# Altium footprint library SparkFun-Hardware.PCBLIB: 23 footprints (part 2 of 2)
Each footprint in its own frame and in the unit in brackets; x right, y up, seen from the top. Pads: shape width x height; smd on the part's side, far side on the other; paste and mask are expansions set on the pad; w line width, h text height; cw(c..) or ccw(c..) is an arc to the next point about the centre after c.
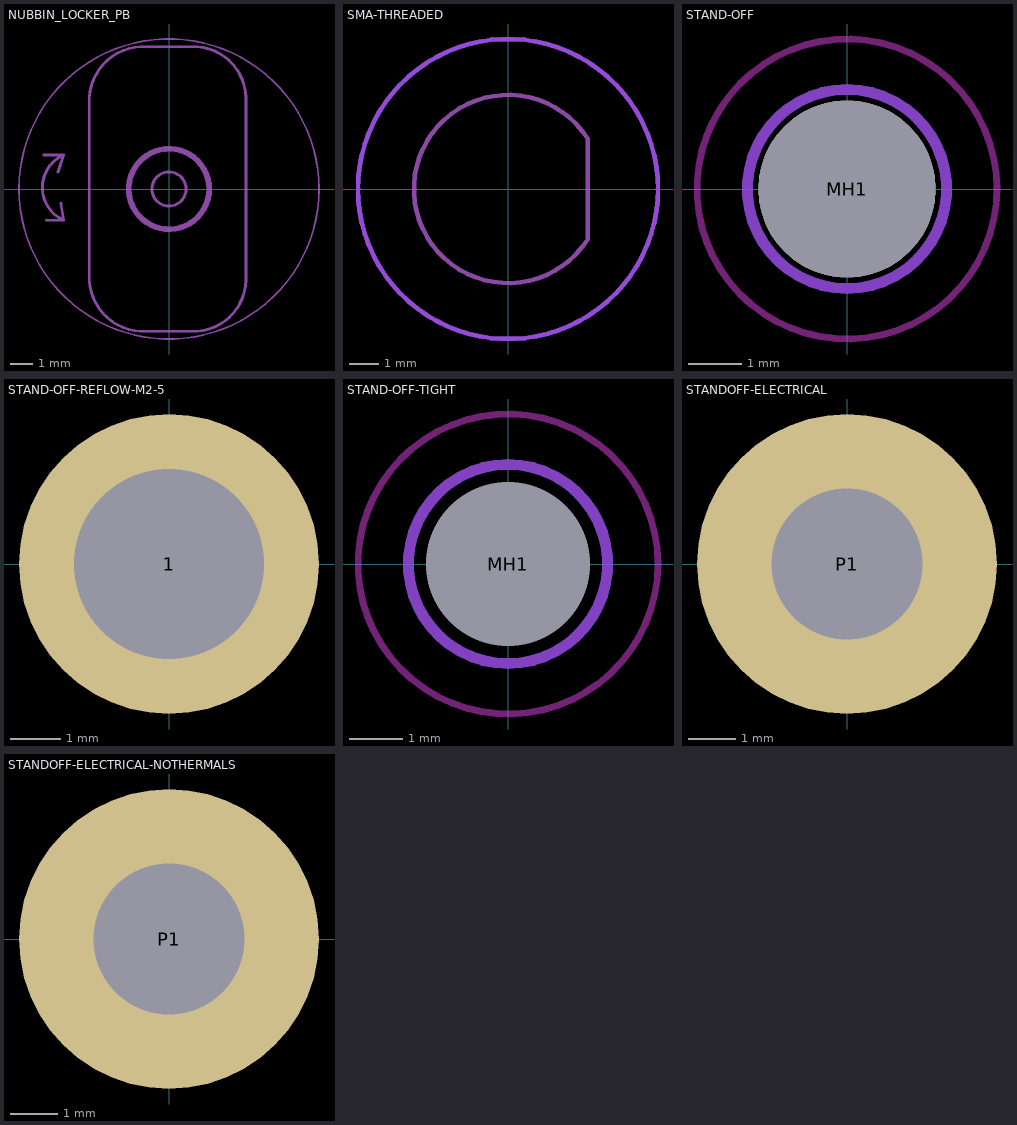
[diagram p1: the footprints below, top view; thin cyan lines are the x and y axes]

## NUBBIN_LOCKER_PB [mil]
Reference:
  circle w10: c0,0 r70.71
  circle w3: c0,0 r263.48
  lines w5: -220,60 -185,60 -195,30 ; -215,-55 -185,-55 -190,-25 ; -189.48,57.67 ccw(c-159.98,2.55) -186.43,-54.09 ; -140,-150 -140,150 cw(c-45,155) -50,250 50,250 cw(c42.5,157.5) 135,150 135,-150 cw(c42.5,-157.5) 50,-250 -50,-250 cw(c-45,-155) -140,-150
Mech68:
  circle w5: c0,0 r30

## SMA-THREADED [mil]
Top keep-out:
  circle w6: c0,0 r200
Bottom keep-out:
  circle w6: c0,0 r200
Milling:
  lines w6: 106.3,-66.93 cw(c0.1,0) 106.3,66.93 106.3,-66.93
  text "Route" at 0,22.5 h46.5
  text "Out" at 0,-22.5 h46.5
tDocu:
  circle w6: c0,0 r200
  lines w6: 106.3,-66.93 cw(c0.1,0) 106.3,66.93 106.3,-66.93
  text "Route" at 0,22.5 h46.5
  text "Out" at 0,-22.5 h46.5
  text "Anti-Slip Washer" at 0,-150 h15.5

## STAND-OFF [mil]
pads (1):
  round 130 hole 130 unplated: MH1(0,0)
Top keep-out:
  circle w5: c0,0 r110
  lines w8: 0,-73 ccw(c0,0) 0,73 ccw(c0,0) 0,-73
Bottom keep-out:
  lines w8: 0,-73 ccw(c0,0) 0,73 ccw(c0,0) 0,-73

## STAND-OFF-REFLOW-M2-5 [mm]
pads (1):
  round 6 hole 3.8: 1(0,0)
Top Paste:
  region: 0.4,1.9 0.54,1.875 0.812,1.79 1.066,1.664 1.297,1.498 1.498,1.297 1.664,1.066 1.79,0.812 1.875,0.54 1.9,0.4 3,0.4 2.971,0.647 2.831,1.124 2.615,1.57 2.327,1.975 1.975,2.327 1.57,2.615 1.124,2.831 0.647,2.971 0.4,3
  region: -1.9,0.4 -1.875,0.54 -1.79,0.812 -1.664,1.066 -1.498,1.297 -1.297,1.498 -1.066,1.664 -0.812,1.79 -0.54,1.875 -0.4,1.9 -0.4,3 -0.647,2.971 -1.124,2.831 -1.57,2.615 -1.975,2.327 -2.327,1.975 -2.615,1.57 -2.831,1.124 -2.971,0.647 -3,0.4
  region: -0.4,-1.9 -0.54,-1.875 -0.812,-1.79 -1.066,-1.664 -1.297,-1.498 -1.498,-1.297 -1.664,-1.066 -1.79,-0.812 -1.875,-0.54 -1.9,-0.4 -3,-0.4 -2.971,-0.647 -2.831,-1.124 -2.615,-1.57 -2.327,-1.975 -1.975,-2.327 -1.57,-2.615 -1.124,-2.831 -0.647,-2.971 -0.4,-3
  region: 1.9,-0.4 1.875,-0.54 1.79,-0.812 1.664,-1.066 1.498,-1.297 1.297,-1.498 1.066,-1.664 0.812,-1.79 0.54,-1.875 0.4,-1.9 0.4,-3 0.647,-2.971 1.124,-2.831 1.57,-2.615 1.975,-2.327 2.327,-1.975 2.615,-1.57 2.831,-1.124 2.971,-0.647 3,-0.4

## STAND-OFF-TIGHT [mil]
pads (1):
  round 120 hole 120 unplated: MH1(0,0)
Top keep-out:
  circle w5: c0,0 r110
  lines w8: 0,-73 ccw(c0,0) 0,73 ccw(c0,0) 0,-73
Bottom keep-out:
  lines w8: 0,-73 ccw(c0,0) 0,73 ccw(c0,0) 0,-73

## STANDOFF-ELECTRICAL [mil]
pads (1):
  round 250 hole 125.98: P1(0,0)

## STANDOFF-ELECTRICAL-NOTHERMALS [mil]
pads (1):
  round 250 hole 125.98: P1(0,0)